# Altium integrated library SMART_WATCH_TOP.IntLib: 51 symbols
Pins are listed as number, name and electrical type; pins without a type are passive.

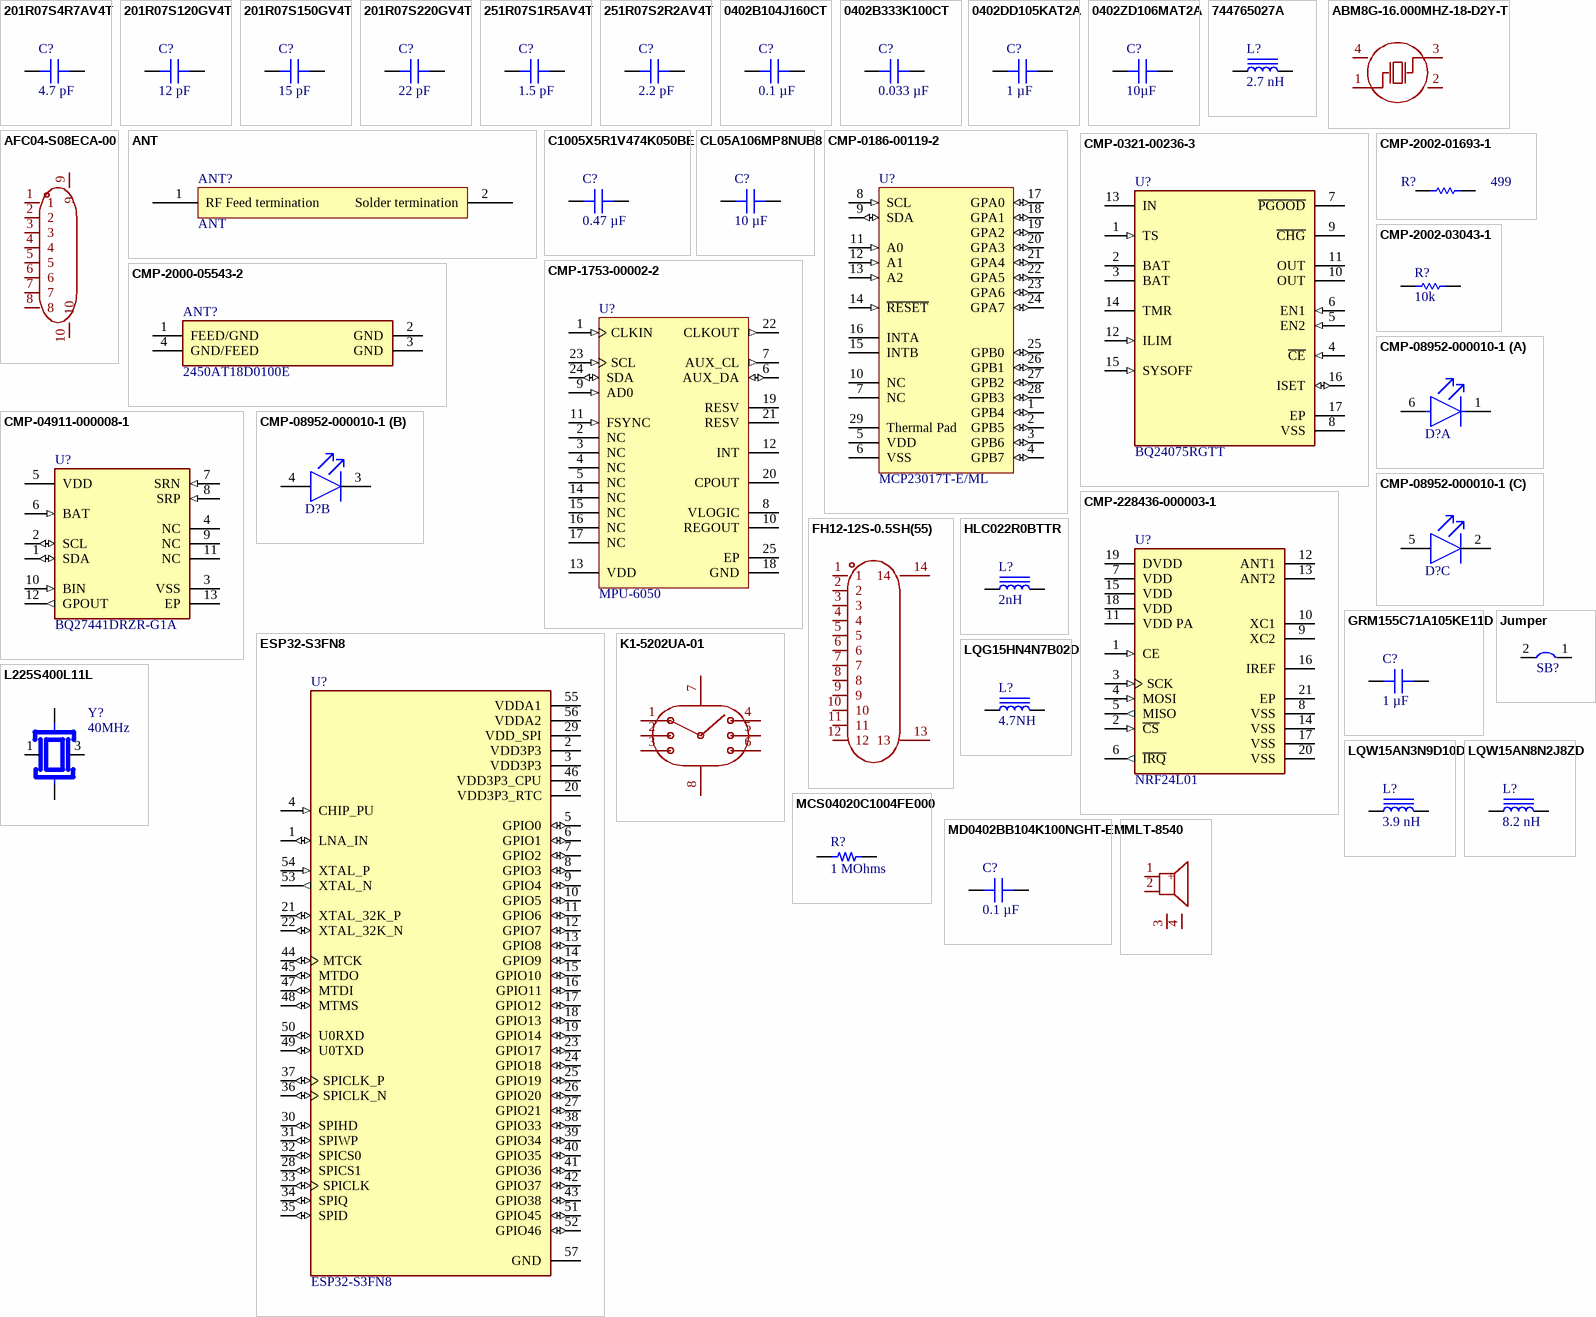
[diagram p0: symbols 201R07S4R7AV4T to MLT-8540]

## 201R07S4R7AV4T
designator C?, comment 4.7 pF
CAP CER 4.7PF 200V C0G/NP0 0402; Part Number: 201R07S4R7AV4T; MFR.Part #: 0402CG4R7C500NT; Manufacturer: FH (Guangdong Fenghua Advanced Tech); Temperature Coefficient: C0G, NP0; Tolerance: ±0.05pF; Applications: RF, Microwave, High Frequency; componentlink1description: Datasheet; componentlink1url: https://www.johansontechnology.com/downloads/catalog/johanson-technology-multi-layer-high-q-capacitors.pdf; componentlink2description: DigiKey Link; componentlink2url: https://www.digikey.com/en/products/detail/johanson-technology-inc/201R07S4R7AV4T/9658851; Device Package: 0402 (1005 Metric); Features: High Q, Low Loss, Ultra Low ESR; lastupdated: 2/9/2024 8:04:23 PM; Lifecycle Status: Active; Minimum Order: 1; Mounting Type: Surface Mount, MLCC; Operating Temperature: -55°C ~ 125°C; Package / Case: 0402 (1005 Metric); packaging: TapeAndReel; partid: 45674; Part Status: Active; price: 0.15; series: S; Size / Dimension: 0.040" L x 0.020" W (1.02mm x 0.51mm); Supplier 1: DigiKey; Supplier Part Number 1: 712-1682-1-ND; Thickness (Max): 0.024" (0.61mm); value: 4.7 pF; Voltage - Rated: 200V; JLCPCB Part #: C1569; Capacitance: 4.7 pF
footprint CAP 0402_1005
pins: 1, 2

## 201R07S120GV4T
designator C?  Capacitance: 12 pF
CAP CER 12PF 200V C0G/NP0 0402; Part Number: 0402CG120J500NT; Manufacturer: FH (Guangdong Fenghua Advanced Tech); Applications: RF, Microwave, High Frequency; Device Package: 0402 (1005 Metric); Mounting Type: Surface Mount, MLCC; Size / Dimension: 0.040" L x 0.020" W (1.02mm x 0.51mm); MFR.Part #: 0402CG120J500NT; JLCPCB Part #: C1547
footprint CAP 0402_1005
pins: 1, 2

## 201R07S150GV4T
designator C?  Capacitance: 15 pF
CAP CER 15PF 200V C0G/NP0 0402; Part Number: 0402CG150J500NT; Manufacturer: FH (Guangdong Fenghua Advanced Tech); Applications: RF, Microwave, High Frequency; Device Package: 0402 (1005 Metric); Mounting Type: Surface Mount, MLCC; Size / Dimension: 0.040" L x 0.020" W (1.02mm x 0.51mm); MFR.Part #: 0402CG150J500NT; JLCPCB Part #: C1548
footprint CAP 0402_1005
pins: 1, 2

## 201R07S220GV4T
designator C?, comment 22 pF
CAP CER 22PF 200V C0G/NP0 0402; Part Number: 201R07S220GV4T; MFR.Part #: 0402CG220J500NT; Manufacturer: FH (Guangdong Fenghua Advanced Tech); Temperature Coefficient: C0G, NP0; Tolerance: ±2%; Capacitance: 22 pF; Applications: RF, Microwave, High Frequency; componentlink1description: Datasheet; componentlink1url: https://www.johansontechnology.com/downloads/catalog/johanson-technology-multi-layer-high-q-capacitors.pdf; componentlink2description: DigiKey Link; componentlink2url: https://www.digikey.com/en/products/detail/johanson-technology-inc/201R07S220GV4T/9658867; Device Package: 0402 (1005 Metric); Features: High Q, Low Loss, Ultra Low ESR; lastupdated: 2/9/2024 8:04:18 PM; Lifecycle Status: Active; Minimum Order: 1; Mounting Type: Surface Mount, MLCC; Operating Temperature: -55°C ~ 125°C; Package / Case: 0402 (1005 Metric); packaging: TapeAndReel; partid: 45669; Part Status: Active; price: 0.06; series: S; Size / Dimension: 0.040" L x 0.020" W (1.02mm x 0.51mm); Supplier 1: DigiKey; Supplier Part Number 1: 712-1698-1-ND; Thickness (Max): 0.024" (0.61mm); value: 22 pF; Voltage - Rated: 200V; JLCPCB Part #: C1555
footprint CAP 0402_1005
pins: 1, 2

## 251R07S1R5AV4T
designator C?, comment 1.5 pF
CAP CER 1.5PF 250V C0G/NP0 0402; Part Number: 251R07S1R5AV4T; MFR.Part #: 0402CG1R5C500NT; Manufacturer: FH (Guangdong Fenghua Advanced Tech); Temperature Coefficient: C0G, NP0; Tolerance: ±0.05pF; Capacitance: 1.5 pF; Applications: RF, Microwave, High Frequency; componentlink1description: Datasheet; componentlink1url: https://www.johansontechnology.com/downloads/catalog/johanson-technology-multi-layer-high-q-capacitors.pdf; componentlink2description: DigiKey Link; componentlink2url: https://www.digikey.com/en/products/detail/johanson-technology-inc/251R07S1R5AV4T/9658837; Device Package: 0402 (1005 Metric); Features: High Q, Low Loss, Ultra Low ESR; lastupdated: 2/9/2024 8:04:21 PM; Lifecycle Status: Active; Minimum Order: 1; Mounting Type: Surface Mount, MLCC; Operating Temperature: -55°C ~ 125°C; Package / Case: 0402 (1005 Metric); packaging: TapeAndReel; partid: 12240; Part Status: Active; price: 0.05; series: S; Size / Dimension: 0.040" L x 0.020" W (1.02mm x 0.51mm); Supplier 1: DigiKey; Supplier Part Number 1: 712-1668-1-ND; Thickness (Max): 0.024" (0.61mm); value: 1.5 pF; Voltage - Rated: 250V; JLCPCB Part #: C1552
footprint CAP 0402_1005
pins: 1, 2

## 251R07S2R2AV4T
designator C?, comment 2.2 pF
CAP CER 2.2PF 250V C0G/NP0 0402; Part Number: 251R07S2R2AV4T; MFR.Part #: C1559; Manufacturer: FH (Guangdong Fenghua Advanced Tech); Temperature Coefficient: C0G, NP0; Tolerance: ±0.05pF; Capacitance: 2.2 pF; Applications: RF, Microwave, High Frequency; componentlink1description: Datasheet; componentlink1url: https://www.johansontechnology.com/downloads/catalog/johanson-technology-multi-layer-high-q-capacitors.pdf; componentlink2description: DigiKey Link; componentlink2url: https://www.digikey.com/en/products/detail/johanson-technology-inc/251R07S2R2AV4T/9658843; Device Package: 0402 (1005 Metric); Features: High Q, Low Loss, Ultra Low ESR; lastupdated: 2/9/2024 8:04:21 PM; Lifecycle Status: Active; Minimum Order: 1; Mounting Type: Surface Mount, MLCC; Operating Temperature: -55°C ~ 125°C; Package / Case: 0402 (1005 Metric); packaging: TapeAndReel; partid: 12355; Part Status: Active; price: 0.15; series: S; Size / Dimension: 0.040" L x 0.020" W (1.02mm x 0.51mm); Supplier 1: DigiKey; Supplier Part Number 1: 712-1674-1-ND; Thickness (Max): 0.024" (0.61mm); value: 2.2 pF; Voltage - Rated: 250V; JLCPCB Part #: 0402CG2R2C500NT
footprint CAP 0402_1005
pins: 1, 2

## 0402B104J160CT
designator C?  Capacitance: 0.1 µF
100nF 16V X7R ±10% 0402 Multilayer Ceramic Capacitors MLCC - SMD/SMT ROHS; Manufacturer: YAGEO; MFR.Part #: CC0402KRX7R7BB104; Device Package: 0402 (1005 Metric); Size / Dimension: 0.039" L x 0.020" W (1.00mm x 0.50mm); JLCPCB Part #: C60474
footprint CAP 0402_1005
pins: 1, 2

## 0402B333K100CT
designator C?, comment 0.033 µF
CAP CER 0.033UF 10V X7R 0402; Part Number: 0402B333K100CT; MFR.Part #: 0402B333K160NT; Manufacturer: FH (Guangdong Fenghua Advanced Tech); Tolerance: ±10%; Capacitance: 0.033 µF; Applications: General Purpose; componentlink1description: Datasheet; componentlink1url: http://www.passivecomponent.com/wp-content/uploads/2018/10/MLCC.pdf; componentlink2description: DigiKey Link; componentlink2url: https://www.digikey.com/en/products/detail/walsin-technology-corporation/0402B333K100CT/9354700; Device Package: 0402 (1005 Metric); lastupdated: 2/9/2024 8:04:38 PM; Lifecycle Status: Active; Minimum Order: 1; Mounting Type: Surface Mount, MLCC; Operating Temperature: -55°C ~ 125°C; Package / Case: 0402 (1005 Metric); packaging: CutTape; partid: 1884; Part Status: Active; price: 0.01; series: -; Size / Dimension: 0.039" L x 0.020" W (1.00mm x 0.50mm); Supplier 1: DigiKey; Supplier Part Number 1: 1292-1202-1-ND; Temperature Coefficient: X7R; Thickness (Max): 0.022" (0.55mm); value: 0.033 µF; Voltage - Rated: 10V; JLCPCB Part #: C60425
footprint CAP 0402_1005
pins: 1, 2

## 0402DD105KAT2A
designator C?  Capacitance: 1 µF
10V 1uF X5R ±10% 0402 Multilayer Ceramic Capacitors MLCC - SMD/SMT ROHS; Part Number: CL05A105KP5NNNC; Manufacturer: Samsung Electro-Mechanics; Device Package: 0402 (1005 Metric); Size / Dimension: 0.039" L x 0.020" W (1.00mm x 0.50mm); MFR.Part #: CL05A105KP5NNNC; JLCPCB Part #: C14445
footprint CAP 0402_1005
pins: 1, 2

## 0402ZD106MAT2A
designator C?, comment 10µF
CAP CER 10UF 10V X5R 0402; Part Number: 0402ZD106MAT2A; MFR.Part #: CL05A106MP8NUB8; Manufacturer: Samsung Electro-Mechanics; Tolerance: ±20%; Capacitance: 10µF; Applications: General Purpose; componentlink1description: Datasheet; componentlink1url: http://datasheets.avx.com/cx5r.pdf; componentlink2description: DigiKey Link; componentlink2url: http://digikey.com/product-detail/en/avx-corporation/0402ZD106MAT2A/478-10052-1-ND/6564275; Device Package: 0402 (1005 Metric); lastupdated: 2/8/2022 12:26:50 PM; Lifecycle Status: Active; Minimum Order: 1; Mounting Type: Surface Mount, MLCC; Operating Temperature: -55°C ~ 85°C; Package / Case: 0402 (1005 Metric); packaging: TapeAndReel; partid: 6854; Part Status: Active; price: 0.24; series: -; Size / Dimension: 0.039" L x 0.020" W (1.00mm x 0.50mm); Supplier 1: DigiKey; Supplier Part Number 1: 478-10052-1-ND; Temperature Coefficient: X5R; Thickness (Max): 0.028" (0.71mm); value: 10µF; Voltage - Rated: 10V; JLCPCB Part #: C307415
footprint CAP 0402_1005
pins: 1, 2

## 744765027A
designator L?, comment 2.7 nH
FIXED IND 2.7NH 640MA 120MOHM SM; Part Number: 744765027A; MFR.Part #: CS0402-2N7B-S; Manufacturer: Chilisin Elec; DC Resistance (DCR): 120mOhm Max; Frequency - Self Resonant: 6GHz; Inductance Frequency - Test: 250 MHz; Material - Core: Ceramic; Q @ Freq: 16 @ 250MHz; Shielding: Unshielded; Tolerance: ±0.2nH; Type: Drum Core, Wirewound; ComponentLink1Description: Datasheet; ComponentLink1URL: https://katalog.we-online.de/pbs/datasheet/744765027A.pdf; ComponentLink2Description: DigiKey Link; ComponentLink2URL: https://www.digikey.com/en/products/detail/würth-elektronik/744765027A/1994078; Current Rating (Amps): 640 mA; Device Package: 0402 (1005 Metric); Height - Seated (Max): 0.024" (0.60mm); Inductance: 2.7 nH; LastUpdated: 6/3/2024 8:03:31 PM; Lifecycle Status: Active; Minimum Order: 1; Mounting Type: Surface Mount; Operating Temperature: -40°C ~ 125°C; Package / Case: 0402 (1005 Metric); Packaging: TapeAndReel; PartId: 680; Part Status: Active; Price: 0.27; Ratings: AEC-Q200; Series: WE-KI; Size / Dimension: 0.039" L x 0.022" W (1.00mm x 0.55mm); Supplier 1: DigiKey; Supplier Part Number 1: 732-1708-1-ND; Supplier Device Package: 0402 (1005 Metric); Value: 2.7 nH; JLCPCB Part #: C142182
footprint IND 0402_1005 RF WW
pins: 1, 2

## ABM8G-16.000MHZ-18-D2Y-T
designator X?, comment 16MHz  (value not drawn)
Manufacturer: Abracon LLC; Symbol: ABM8G-16.000MHZ-18-D2Y-T; Add into BOM: yes; Normal temperature Frequency Tolerance: ±20ppm; Frequency Stability(Full temperature range): ±30ppm; Equivalent Series Resistance (ESR): 80Ω; Device: ABM8G-16.000MHZ-18-D2Y-T; LCSC Part Name: 16MHz ±20ppm 18pF; Supplier Part: C1985423; Manufacturer Part: ABM8G-16.000MHZ-18-D2Y-T; Supplier Footprint: SMD3225-4P; JLCPCB Part Class: Extended Part; Datasheet: https://atta.szlcsc.com/upload/public/pdf/source/20180906/C276421_0DB5B9EE345225C827799AFD2B19ACDB.pdf; Supplier: LCSC; Convert to PCB: yes; MFR.Part #: ABM8G-16.000MHZ-18-D2Y-T; JLCPCB Part #: C1985423
footprint CRYSTAL-SMD_4P-L3.2-W2.5-BL
3D model CRYSTAL-SMD_4P-L3.2-W2.5-BL
pins: 1 OSC1, 2, 3 OSC2, 4

## AFC04-S08ECA-00
designator FPC?  (value not drawn)
Manufacturer: JUSHUO; Add into BOM: yes; Locking Feature: 抽屉式; Number of Contacts: 8P; Pitch: 0.5mm; FFC, FCB Thickness: 0.3mm; Symbol: AFC04-S08ECA-00; Device: AFC04-S08ECA-00; LCSC Part Name: 间距:0.5mm P数:8P 抽屉式 上接; Supplier Part: C883637; Manufacturer Part: AFC04-S08ECA-00; Supplier Footprint: SMD,P=0.5mm,卧贴; JLCPCB Part Class: Extended Part; Datasheet: https://atta.szlcsc.com/upload/public/pdf/source/20201020/C883635_E94301B494140F0FE9C86E243B1AABF7.pdf; Supplier: LCSC; Convert to PCB: yes; Contact Type: Contact,Top; Mounting Type: 卧贴; Height Above Board: 1.2mm; Operating Temperature Range: -25℃~+85℃; JLCPCB Part #: C883637; MFR.Part #: AFC04-S08ECA-00
footprint FPC-SMD_AFC04-S08ECA-00
3D model FPC-SMD_AFC04-S08ECA-00
pins: 1, 2, 3, 4, 5, 6, 7, 8, 9, 10

## ANT
designator ANT?
MFR.Part #: 2450AT18D0100E; Manufacturer: Johanson Dielectrics; JLCPCB Part #: C2917718
footprint CAPC3216X13N (Chip Capacitor, 2-Leads, Body 3.20x1.60mm, IPC Medium Density)
pins: 1 RF Feed termination, 2 Solder termination

## C1005X5R1V474K050BE
designator C?, comment 0.47 µF
CAP CER 0.47UF 35V X5R 0402; Part Number: C1005X5R1V474K050BE; MFR.Part #: GRM155R61A474KE15D; Manufacturer: Murata Electronics; Tolerance: ±10%; Capacitance: 0.47 µF; Applications: Boardflex Sensitive; componentlink1description: Datasheet; componentlink1url: https://product.tdk.com/info/en/catalog/datasheets/mlcc_commercial_soft_en.pdf?ref_disty=digikey; componentlink2description: DigiKey Link; componentlink2url: https://www.digikey.com/en/products/detail/tdk-corporation/C1005X5R1V474K050BE/7907744; Device Package: 0402 (1005 Metric); Features: Soft Termination; lastupdated: 2/9/2024 8:04:38 PM; Lifecycle Status: Active; Minimum Order: 1; Mounting Type: Surface Mount, MLCC; Operating Temperature: -55°C ~ 85°C; Package / Case: 0402 (1005 Metric); packaging: TapeAndReel; partid: 1797; Part Status: Active; price: 0.01; series: C; Size / Dimension: 0.039" L x 0.020" W (1.00mm x 0.50mm); Supplier 1: DigiKey; Supplier Part Number 1: 445-175220-1-ND; Temperature Coefficient: X5R; Thickness (Max): 0.024" (0.60mm); value: 0.47 µF; Voltage - Rated: 35V; JLCPCB Part #: C77003
footprint CAP 0402_1005
pins: 1, 2

## CL05A106MP8NUB8
designator C?, comment 10 µF
CAP CER 10UF 10V X5R 0402; Part Number: CL05A106MP8NUB8; MFR.Part #: CL05A106MQ5NUNC; Manufacturer: Samsung Electro-Mechanics; Capacitance: 10 µF; JLCPCB Part #: C15525
footprint CAP 0402_1005
pins: 1, 2

## CMP-0186-00119-2
designator U?, comment MCP23017T-E/ML
16-Bit I/O Expander with Serial Interface, 28-Pin QFN, Extended Temperature, Tape and Reel; Manufacturer: Microchip; RevisionNote: URLs added.; PackageDescription: 28-Lead Plastic Quad Flat, No Lead Package (ML) - 6x6 mm Body [QFN] with 0.55 mm Contact Length; ComponentLink3Description: Package Specification; ComponentLink2URL: http://ww1.microchip.com/downloads/en/DeviceDoc/21952b.pdf; PackageVersion: revBB, Aug-2009; PackageReference: QFN-ML28; ComponentLink2Description: Datasheet; ComponentLink1URL: http://www.microchip.com/; DatasheetVersion: revB, Feb-2007; ComponentLink3URL: http://www.microchip.com/stellent/groups/techpub_sg/documents/packagingspec/en012702.pdf; Code_JEDEC: MO-220; ComponentLink1Description: Manufacturer URL; Manufacturer Part Number: MCP23017T-E/ML
footprint QFN-ML28_M (QFN, 28-Leads, Body 6x6mm, Pitch 0.65mm, Thermal Pad 4.2x4.2mm, IPC Low Density)
footprint QFN-ML28_N (QFN, 28-Leads, Body 6x6mm, Pitch 0.65mm, Thermal Pad 4.2x4.2mm, IPC Medium Density)
footprint QFN-ML28_L (QFN, 28-Leads, Body 6x6mm, Pitch 0.65mm, Thermal Pad 4.2x4.2mm, IPC High Density)
pins: 1 GPB4 (io), 2 GPB5 (io), 3 GPB6 (io), 4 GPB7 (io), 5 VDD (power), 6 VSS (power), 7 NC, 8 SCL (in), 9 SDA (io), 10 NC, 11 A0 (in), 12 A1 (in), 13 A2 (in), 14 ~{RESET} (in), 15 INTB (oc), 16 INTA (oc), 17 GPA0 (io), 18 GPA1 (io), 19 GPA2 (io), 20 GPA3 (io), 21 GPA4 (io), 22 GPA5 (io), 23 GPA6 (io), 24 GPA7 (io), 25 GPB0 (io), 26 GPB1 (io), 27 GPB2 (io), 28 GPB3 (io), 29 Thermal Pad

## CMP-0321-00236-3
designator U?, comment BQ24075RGTT
IC LI-ION CHARGE/PWR MGMT 16-QFN; Manufacturer: Texas Instruments; Min Input Voltage: 4.3V; Output Voltage: 4.2V; Max Input Voltage: 26V; Min Supply Voltage: 4.35V; Max Supply Voltage: 6.4V; Min Output Voltage: 5.4V; Output Current: 1.5A; Number of Cells: 1; Max Output Current: 4.5A; Max Output Voltage: 5.6V; Battery Type: LITHIUM-ION; Package Quantity: 1; Length: 3.15mm; Weight: 0.000808oz; Termination: SMD/SMT; Height: 0.95mm; Series: -; Lead Free: Lead Free; Radiation Hardening: No; REACH SVHC: No SVHC; Case/Package: QFN; Number of Pins: 16; Width: 3.15mm; Max Operating Temperature: 85°C; Contact Plating: Gold; Max Charge Current: 1.5A; Packaging: Tape and Reel; Min Operating Temperature: -40°C; MFR.Part #: BQ24075RGTT; JLCPCB Part #: C2865459; Manufacturer Part Number: BQ24075RGTT
footprint FP-RGT0016C-IPC_C
footprint FP-RGT0016C-IPC_B
footprint FP-RGT0016C-IPC_A
footprint FP-RGT0016C-MFG
pins: 1 TS (in), 2 BAT (power), 3 BAT (power), 4 ~{CE} (in), 5 EN2 (in), 6 EN1 (in), 7 ~{PGOOD} (hiz), 8 VSS (power), 9 ~{CHG} (hiz), 10 OUT (power), 11 OUT (power), 12 ILIM (in), 13 IN (power), 14 TMR, 15 SYSOFF (in), 16 ISET (io), 17 EP (power)

## CMP-1753-00002-2
designator U?, comment MPU-6050
3-Axis Gyroscope, Accelerometer and a Digital Motion Processor(TM) (DMP), 2.375 to 3.46 V, -40 to 85 degC, 24-Pin QFN, RoHS, Tape and Reel; Manufacturer: TDK InvenSense; Manufacturer: InvenSense; Featured Product: MPU-60506-Axis,IntegratedI²CSolution; Other Names: 1428-1007-2 / MPU6050; Sensor Type: MotionTracking; Online Catalog: MPU-6000™Series; Unit PriceUSD: Digital; Datasheet Version: Rev. 3.3, 05/2012; Category: Sensors,Transducers; Datasheet URL: http://datasheet.octopart.com/MPU-6050-InvenSense-datasheet-14421344.pdf; Family: Multifunction; Standard Package: 5,000; Manufacturer URL: http://www.invensense.com/; Output Type: Digital; Dynamic Catalog: MPU-6000™Series; MFR.Part #: MPU-6050; JLCPCB Part #: C24112; Manufacturer Part Number: MPU-6050
footprint IS-QFN-24_V (QFN, 24-Leads, Body 4x4mm, Pitch 0.5mm, Thermal Pad 2.7x2.6mm)
pins: 1 CLKIN (in) "Optional external reference clock input. Connect to GND if unused.", 2 NC "Not internally connected. May be used for PCB trace routing", 3 NC "Not internally connected. May be used for PCB trace routing", 4 NC "Not internally connected. May be used for PCB trace routing", 5 NC "Not internally connected. May be used for PCB trace routing", 6 AUX_DA (io) "I2C master serial data, for connecting to external sensors", 7 AUX_CL (out) "I2C Master serial clock, for connecting to external sensors", 8 VLOGIC (power) "Digital I/O supply voltage", 9 AD0 (in) "I2C Slave Address LSB (AD0)", 10 REGOUT "Regulator filter capacitor connection", 11 FSYNC (in) "Frame synchronization digital input. Connect to GND if unused.", 12 INT (oc) "Interrupt digital output (totem pole or open-drain)", 13 VDD (power) "Power supply voltage and Digital I/O supply voltage", 14 NC "Not internally connected. May be used for PCB trace routing", 15 NC "Not internally connected. May be used for PCB trace routing", 16 NC "Not internally connected. May be used for PCB trace routing", 17 NC "Not internally connected. May be used for PCB trace routing", 18 GND (power) "Power supply ground", 19 RESV "Reserved. Do not connect", 20 CPOUT "Charge pump capacitor connection", 21 RESV "Reserved. Do not connect", 22 CLKOUT (out) "System clock output", 23 SCL (in) "System clock output  I2C serial clock (SCL)", 24 SDA (io) "I2C serial data (SDA)", 25 EP (power) "Exposed Pad"

## CMP-2000-05543-2
designator ANT?, comment 2450AT18D0100E
RF ANT 2.4GHZ CHIP SOLDER SMD; Manufacturer: Johanson Dielectrics; Manufacturer: Johanson; Gain: -1dB; Bandwidth: 100MHz; Frequency: 2.45GHz; Power Rating: 2W; Impedance: 50R; Number of Bands: 1; Return Loss: -10dB; Case/Package: SMD/SMT; Width: 1.6mm; RoHS Compliant: Yes; Package Quantity: 3000; Height: 0.047inch; Series: -; Max Power Dissipation: 2W; Mount: Surface Mount; Termination: Solder; Radiation Hardening: No; Packaging: Tape and Reel; Length: 3.2mm; JLCPCB Part #: C2917718; MFR.Part #: 2450AT18D0100E; Manufacturer Part Number: 2450AT18D0100E
footprint FP-2450AT18D0100E-MFG
pins: 1 FEED/GND (power), 2 GND (power), 3 GND (power), 4 GND/FEED (power)

## CMP-2002-01693-1
designator R?, comment resistance: 499  (hidden comment: TNPW0402499RBEED)
Part Number: RC0402FR-07499RL; Manufacturer: YAGEO; Manufacturer: Vishay; JLCPCB Part #: C137970; MFR.Part #: RC0402FR-07499RL; Manufacturer Part Number: TNPW0402499RBEED
footprint RESC1005X40X20NL05T10 (Chip Resistor, 2-Leads, Body 1.00x0.50mm, IPC Medium Density)
footprint RESC1005X40X20LL05T10 (Chip Resistor, 2-Leads, Body 1.00x0.50mm, IPC High Density)
footprint RESC1005X40X20ML05T10 (Chip Resistor, 2-Leads, Body 1.00x0.50mm, IPC Low Density)
pins: 1, 2
1 alternate drawing of the same symbol

## CMP-2002-03043-1
designator R?, comment resistance: 10k  (hidden comment: 0402WGF1002TCE)
Manufacturer: UNI-ROYAL(Uniroyal Elec); Manufacturer: Vishay; Manufacturer Part Number: CRCW040210K0FKEDHP; Part Number: 0402WGF1002TCE; JLCPCB Part #: C25744; MFR.Part #: 0402WGF1002TCE
footprint RESC1005X40X25ML05T10 (Chip Resistor, 2-Leads, Body 1.00x0.50mm, IPC Low Density)
footprint RESC1005X40X25LL05T10 (Chip Resistor, 2-Leads, Body 1.00x0.50mm, IPC High Density)
footprint RESC1005X40X25NL05T10 (Chip Resistor, 2-Leads, Body 1.00x0.50mm, IPC Medium Density)
pins: 1, 2
1 alternate drawing of the same symbol

## CMP-04911-000008-1
designator U?, comment BQ27441DRZR-G1A
IC BATT FUEL GAUGE LI-ION 12SON; Manufacturer: Texas Instruments; Number Of Cells: 1; Nominal Supply Current: 93uA; Max Supply Voltage: 4.5V; Standoff Height: 0mm; Min Supply Voltage: 2.45V; Output Voltage: 1.8V; Temperature Range High: +85°C; Temperature: -40°C to +85°C; Device Class L2: Power Management ICs; Device Class L1: Integrated Circuits (ICs); Lead Free: Yes; Height: 1mm; Package: DRZ0012A; Number Of Outputs: 1; ComponentLink2URL: http://www.ti.com/lit/gpn/bq27441-g1; Ambient Temperature Range High: +85°C; Category: IC; Manufacturer Part Number: BQ27441DRZR-G1A; Device Class L3: Battery Management; RoHS: TRUE; Octopart: https://octopart.com/bq27441drzr-g1a-texas+instruments-30555829; Ambient Temperature Range Low: -40°C; Automotive: No; Mouser Description: System-Side Impedance Track? Battery Fuel (Gas) Gauge 12-SON -40 to 85; Digikey Description: IC BATT FUEL GAUGE LI-ION 12SON; Temperature Range Low: -40°C; ComponentLink2Description: Datasheet; MFR.Part #: BQ27441DRZR-G1A; JLCPCB Part #: C473397
footprint FP-DRZ0012A-MFG
pins: 1 SDA (io), 2 SCL (io), 3 VSS (power), 4 NC, 5 VDD (power), 6 BAT (in), 7 SRN (in), 8 SRP (in), 9 NC, 10 BIN (in), 11 NC, 12 GPOUT (out), 13 EP (power)

## CMP-08952-000010-1
designator D?, comment MSL0402RGBU1  (value not drawn)
LED RGB DIFFUSED 1816 SMD; Manufacturer: ROHM; Wavelength: 470/527/624nm; Luminous Intensity: 180/550/400mcd; Forward Voltage: 3.3/3.5/2.1V; Power Dissipation: 180mW; Colour: Blue, Green, Red; Reverse Voltage: 5V; Forward Current: 20mA; Led Orientation: Top View; Lead Free: Yes; Manufacturer Part Number: MSL0402RGBU1; Octopart: https://octopart.com/msl0402rgbu1-rohm-74168054; Device Class L2: LEDs; Digikey Description: LED RGB DIFFUSED 1816 SMD; Package: MSL0402; Temperature Range High: +85°C; RoHS: TRUE; Temperature: -40°C to +85°C; Category: Diode; Height: 0.6mm; Temperature Range Low: -40°C; Device Class L1: Optoelectronics; ComponentLink2Description: Datasheet; Automotive: No; ComponentLink2URL: https://d1d2qsbl8m0m72.cloudfront.net/en/products/databook/datasheet/opto/led/chip_multi/msl0402rgb-e.pdf; Device Class L3: unset; MFR.Part #: MSL0402RGBU1; JLCPCB Part #: C2898980
footprint FP-MSL0402-MFG
part A pins: 1 BLUE C, 6 BLUE A
part B pins: 3 RED C, 4 RED A
part C pins: 2 GREEN C, 5 GREEN A

## CMP-228436-000003-1
designator U?, comment NRF24L01
IC RF TXRX ISM>1GHZ 20VFQFN; MFR.Part #: NRF24L01P-R; Manufacturer: Nordic Semicon; Manufacturer: Elfa Nordic Power; JLCPCB Part #: C8791; Manufacturer Part Number: NRF24L01
footprint FP-NRF24L01-IPC_C
footprint FP-NRF24L01-IPC_B
footprint FP-NRF24L01-IPC_A
pins: 1 CE (in), 2 ~{CS} (in), 3 SCK (in), 4 MOSI (in), 5 MISO (out), 6 ~{IRQ} (out), 7 VDD (power), 8 VSS (power), 9 XC2, 10 XC1, 11 VDD PA (power), 12 ANT1, 13 ANT2, 14 VSS (power), 15 VDD (power), 16 IREF, 17 VSS (power), 18 VDD (power), 19 DVDD (power), 20 VSS (power), 21 EP (power)

## ESP32-S3FN8
designator U?
Espressif Systems [ENGINEERING SAMPLES]SMD IC , Dual-Core MCU, Wi-Fi 2.4G & BLE 5.0 combo, 8 MB Octal SPI PSRAM, QFN 56-pin, 7*7 mm; SnapEDA_Link: https://www.snapeda.com/parts/ESP32-S3FN8/Espressif+Systems/view-part/?ref=snap; Package: None; Value: *; MF: Espressif Systems; MP: ESP32-S3FN8; Check_prices: https://www.snapeda.com/parts/ESP32-S3FN8/Espressif+Systems/view-part/?ref=eda
footprint QFN40P700X700X90-57N
pins: 1 LNA_IN (io), 2 VDD3P3 (power), 3 VDD3P3 (power), 4 CHIP_PU (in), 5 GPIO0 (io), 6 GPIO1 (io), 7 GPIO2 (io), 8 GPIO3 (io), 9 GPIO4 (io), 10 GPIO5 (io), 11 GPIO6 (io), 12 GPIO7 (io), 13 GPIO8 (io), 14 GPIO9 (io), 15 GPIO10 (io), 16 GPIO11 (io), 17 GPIO12 (io), 18 GPIO13 (io), 19 GPIO14 (io), 20 VDD3P3_RTC (power), 21 XTAL_32K_P (io), 22 XTAL_32K_N (io), 23 GPIO17 (io), 24 GPIO18 (io), 25 GPIO19 (io), 26 GPIO20 (io), 27 GPIO21 (io), 28 SPICS1 (io), 29 VDD_SPI (power), 30 SPIHD (io), 31 SPIWP (io), 32 SPICS0 (io), 33 SPICLK (io), 34 SPIQ (io), 35 SPID (io), 36 SPICLK_N (io), 37 SPICLK_P (io), 38 GPIO33 (io), 39 GPIO34 (io), 40 GPIO35 (io), 41 GPIO36 (io), 42 GPIO37 (io), 43 GPIO38 (io), 44 MTCK (io), 45 MTDO (io), 46 VDD3P3_CPU (power), 47 MTDI (io), 48 MTMS (io), 49 U0TXD (io), 50 U0RXD (io), 51 GPIO45 (io), 52 GPIO46 (io), 53 XTAL_N (out), 54 XTAL_P (in), 55 VDDA1 (power), 56 VDDA2 (power), 57 GND (power)

## FH12-12S-0.5SH(55)
designator FPC?  (value not drawn)
Manufacturer: HRS(Hirose); Add into BOM: yes; Locking Feature: Hinged Lid; Number of Contacts: 12P; Pitch: 0.5mm; FFC, FCB Thickness: 0.3mm; Symbol: FH12-12S-0.5SH(55); Device: FH12-12S-0.5SH(55); LCSC Part Name: 间距:0.5mm P数:12P 翻盖式 下接; Supplier Part: C88360; Manufacturer Part: FH12-12S-0.5SH(55); Supplier Footprint: SMD,P=0.5mm,卧贴; JLCPCB Part Class: Extended Part; Datasheet: https://item.szlcsc.com/datasheet/FH12-12S-0.5SH(55)/89539.html; Supplier: LCSC; Convert to PCB: yes; Contact Type: Bottom Contact; Mounting Type: Surface Mount, Right Angle; Height Above Board: 2mm; Contact Material: Phosphor Bronze; Contact Plating: Gold; Operating Temperature: -40℃~+85℃; MFR.Part #: FH12-12S-0.5SH(55); JLCPCB Part #: C88360
footprint FPC-SMD_FH12-12S-0.5SH-55
3D model FPC-SMD_FH12-12S-0.5SH-55
pins: 1, 2, 3, 4, 5, 6, 7, 8, 9, 10, 11, 12, 13, 14

## GRM155C71A105KE11D
designator C?, comment 1 µF
CAP CER 1UF 10V X7S 0402; Part Number: GRM155C71A105KE11D; MFR.Part #: GRM155R60J105KE19D; Manufacturer: Murata Electronics; Tolerance: ±10%; Capacitance: 1 µF; Applications: General Purpose; componentlink1description: Datasheet; componentlink1url: https://search.murata.co.jp/Ceramy/image/img/A01X/G101/ENG/GRM155C71A105KE11-01.pdf; componentlink2description: DigiKey Link; componentlink2url: https://www.digikey.com/en/products/detail/murata-electronics/GRM155C71A105KE11D/6606086; Device Package: 0402 (1005 Metric); lastupdated: 8/27/2024 12:42:54 PM; Lifecycle Status: Active; Minimum Order: 1; Mounting Type: Surface Mount, MLCC; Operating Temperature: -55°C ~ 125°C; Package / Case: 0402 (1005 Metric); packaging: TapeAndReel; partid: 1749; Part Status: Active; price: 0.01; series: GRM; Size / Dimension: 0.039" L x 0.020" W (1.00mm x 0.50mm); Supplier 1: DigiKey; Supplier Part Number 1: 490-14457-1-ND; Temperature Coefficient: X7S; Thickness (Max): 0.024" (0.60mm); value: 1 µF; Voltage - Rated: 10V; JLCPCB Part #: C15684
footprint MURATA GRM155 0402_1005
pins: 1, 2

## HLC022R0BTTR
designator L?, comment 2nH
FIXED IND 2NH 596MA 180 MOHM SMD; Part Number: HLC022R0BTTR; Manufacturer: AVX Corporation; MFR.Part #: W25Q64JWUUIQ; DC Resistance (DCR): 180mOhm Max; Frequency - Self Resonant: 17GHz; Inductance Frequency - Test: 450MHz; Material - Core: Non-Magnetic; Q @ Freq: 26 @ 450MHz; Shielding: Unshielded; Tolerance: ±0.1nH; Type: Multilayer; ComponentLink1Description: Datasheet; ComponentLink1URL: //media.digikey.com/pdf/Data%20Sheets/AVX%20PDFs/MLO%20High%20Current%20Inductors.pdf; ComponentLink2Description: DigiKey Link; ComponentLink2URL: http://digikey.com/product-detail/en/avx-corporation/HLC022R0BTTR/478-7195-1-ND/3528423; Current Rating (Amps): 596mA; Device Package: 0402 (1005 Metric); Height - Seated (Max): 0.018" (0.45mm); Inductance: 2nH; LastUpdated: 9/2/2020 1:24:25 AM; Lifecycle Status: Active; Minimum Order: 1; Mounting Type: Surface Mount; Operating Temperature: -55°C ~ 125°C; Package / Case: 0402 (1005 Metric); Packaging: TapeAndReel; PartId: 1747; Part Status: Active; Price: 0.14; Series: MLO™; Size / Dimension: 0.039" L x 0.023" W (1.00mm x 0.58mm); Supplier 1: DigiKey; Supplier Part Number 1: 478-7195-1-ND; Supplier Device Package: 0402 (1005 Metric); Value: 2nH; JLCPCB Part #: C6604692
footprint IND 0402_1005
pins: 1, 2

## Jumper
designator SB?  (value not drawn)
footprint Jumper
pins: 1, 2

## K1-5202UA-01
designator SW?  (value not drawn)
Manufacturer: Korean Hroparts Elec; Add into BOM: yes; Symbol: K1-5202UA-01; Device: K1-5202UA-01; LCSC Part Name: K1-5202UA-01; Supplier Part: C136710; Manufacturer Part: K1-5202UA-01; Supplier Footprint: SMD,7.5x7.5mm; JLCPCB Part Class: Extended Part; Datasheet: https://atta.szlcsc.com/upload/public/pdf/source/20210810/88783A564DD08671777AA13C042542B2.pdf; Supplier: LCSC; Convert to PCB: yes; MFR.Part #: K1-5202UA-01; JLCPCB Part #: C136710
footprint SW-SMD_K1-5202UA-01
3D model SW-SMD_K1-5202UA-01
pins: 1 A, 2 B, 3 C, 4 CENTER, 5 D, 6 COMMON, 7 COMMON, 8 COMMON

## L225S400L11L
designator Y?  value 40MHz  (hidden comment: L225S400L11L)
-40℃~+85℃ 12pF 40MHz Crystal Oscillator ±10ppm SMD2520-4P Crystals ROHS; Manufacturer: Lucki; Package: SMD2520-4P; JLCPCB Part #: C5261125; MFR.Part #: L225S400L11L
footprint C5261125
pins: 1 IN/OUT, 2 GND (power), 2 GND (power), 3 OUT/IN, 4 GND (power)

## LQG15HN4N7B02D
designator L?, comment 4.7NH
200mΩ 300mA 4.7nH 4GHz 8@100MHz 0402 Inductors (SMD) ROHS; Manufacturer: Sunlord; MFR.Part #: SDCL1005C4N7STDF; value: 4.7NH; JLCPCB Part #: C13595; package: 0402
footprint Murata LQG15 0402
pins: 1, 2

## LQW15AN3N9D10D
designator L?, comment 3.9 nH
FIXED IND 3.9NH 900MA 0.04OHM SM; Part Number: LQW15AN3N9D10D; MFR.Part #: LQG15HS3N9S02D; Manufacturer: Murata Electronics; DC Resistance (DCR): 40mOhm Max; Frequency - Self Resonant: 7GHz; Inductance Frequency - Test: 100 MHz; Material - Core: Non-Magnetic; Q @ Freq: 30 @ 250MHz; Shielding: Unshielded; Tolerance: ±0.5nH; Type: Drum Core, Wirewound; ComponentLink1Description: Datasheet; ComponentLink1URL: https://search.murata.co.jp/Ceramy/image/img/P02/JELF243A-0051.pdf; ComponentLink2Description: DigiKey Link; ComponentLink2URL: https://www.digikey.com/en/products/detail/murata-electronics/LQW15AN3N9D10D/2594912; Current Rating (Amps): 900 mA; Device Package: 0402 (1005 Metric); Height - Seated (Max): 0.024" (0.60mm); Inductance: 3.9 nH; LastUpdated: 7/19/2024 11:52:53 PM; Lifecycle Status: Active; Minimum Order: 1; Mounting Type: Surface Mount; Operating Temperature: -55°C ~ 125°C; Package / Case: 0402 (1005 Metric); Packaging: TapeAndReel; PartId: 171; Part Status: Active; Price: 0.05; Series: LQW15; Size / Dimension: 0.039" L x 0.024" W (1.00mm x 0.60mm); Supplier 1: DigiKey; Supplier Part Number 1: 490-6815-1-ND; Value: 3.9 nH; JLCPCB Part #: C77109
footprint Murata LQW15 0402
pins: 1, 2

## LQW15AN8N2J8ZD
designator L?, comment 8.2 nH
FIXED IND 8.2NH 1.5A 0.069OHM SM; Part Number: LQW15AN8N2J8ZD; MFR.Part #: LQW15AN8N2G80D; Manufacturer: Murata Electronics; DC Resistance (DCR): 69mOhm Max; Frequency - Self Resonant: 6.5GHz; Inductance Frequency - Test: 100 MHz; Material - Core: Non-Magnetic; Q @ Freq: 32 @ 250MHz; Shielding: Unshielded; Tolerance: ±5%; Type: Drum Core, Wirewound; ComponentLink1Description: Datasheet; ComponentLink1URL: https://search.murata.co.jp/Ceramy/image/img/P02/JELF243A-9138.pdf; ComponentLink2Description: DigiKey Link; ComponentLink2URL: https://www.digikey.com/en/products/detail/murata-electronics/LQW15AN8N2J8ZD/6799017; Current Rating (Amps): 1.5 A; Device Package: 0402 (1005 Metric); Height - Seated (Max): 0.024" (0.60mm); Inductance: 8.2 nH; LastUpdated: 7/19/2024 11:52:53 PM; Lifecycle Status: Active; Minimum Order: 1; Mounting Type: Surface Mount; Operating Temperature: -55°C ~ 125°C; Package / Case: 0402 (1005 Metric); Packaging: TapeAndReel; PartId: 154; Part Status: Active; Price: 0.06; Ratings: AEC-Q200; Series: LQW15; Size / Dimension: 0.039" L x 0.024" W (1.00mm x 0.60mm); Supplier 1: DigiKey; Supplier Part Number 1: 490-15592-1-ND; Value: 8.2 nH; JLCPCB Part #: C307610
footprint Murata LQW15 0402
pins: 1, 2

## MCS04020C1004FE000
designator R?, comment 1 MOhms
RES SMD 1M OHM 1% 1/10W 0402; Part Number: MCS04020C1004FE000; Manufacturer: UNI-ROYAL(Uniroyal Elec); MFR.Part #: 0402WGF1004TCE; Power (Watts): 0.1W, 1/10W; Temperature Coefficient: ±50ppm/°C; Value: 1 MOhms; ComponentLink1Description: Datasheet; ComponentLink1URL: http://www.vishay.com/docs/28705/mcx0x0xpro.pdf; ComponentLink2Description: DigiKey Link; ComponentLink2URL: http://digikey.com/product-detail/en/vishay-beyschlag/MCS04020C1004FE000/MCS0402-1.00M-CFCT-ND/2607931; Composition: Thin Film; Device Package: 0402 (1005 Metric); Features: Anti-Sulfur; Height - Seated (Max): 0.015" (0.37mm); LastUpdated: 2/9/2024 8:30:21 PM; Lifecycle Status: Active; Minimum Order: 1; Number of Terminations: 2; Operating Temperature: -55°C ~ 155°C; Package / Case: 0402 (1005 Metric); Packaging: TapeAndReel; PartId: 3158; Part Status: Active; Price: 0.03; Resistance: 1 MOhms; Series: MCS - Professional; Size / Dimension: 0.039" L x 0.020" W (1.00mm x 0.50mm); Supplier 1: DigiKey; Supplier Part Number 1: MCS0402-1.00M-CFCT-ND; Supplier Device Package: 0402; Tolerance: ±1%; JLCPCB Part #: C26083
footprint RES 0402_1005
pins: 1, 2

## MD0402BB104K100NGHT-EM
designator C?, comment 0.1 µF
CAP CER 0.1UF 10V X7R 0402; Part Number: MD0402BB104K100NGHT-EM; MFR.Part #: GRM155R71A104KA01D; Manufacturer: Murata Electronics; Tolerance: ±10%; Capacitance: 0.1 µF; Applications: Medical, Non-Critical; componentlink1description: Datasheet; componentlink1url: https://mm.digikey.com/Volume0/opasdata/d220001/medias/docus/5546/MD Series R3.pdf; componentlink2description: DigiKey Link; componentlink2url: https://www.digikey.com/en/products/detail/knowles-novacap/MD0402BB104K100NGHT-EM/21406861; Device Package: 0402 (1005 Metric); lastupdated: 2/9/2024 8:03:17 PM; Lifecycle Status: Active; Minimum Order: 1; Mounting Type: Surface Mount, MLCC; Operating Temperature: -55°C ~ 125°C; Package / Case: 0402 (1005 Metric); packaging: TapeAndReel; partid: 56675; price: 1.21; series: MD; Supplier 1: DigiKey; Supplier Part Number 1: 1763-MD0402BB104K100NGHT-EMCT-ND; Temperature Coefficient: X7R; value: 0.1 µF; Voltage - Rated: 10V; JLCPCB Part #: C71687
footprint CAP 0402_1005
pins: 1, 2

## MLT-8540
designator BUZZER?, comment 2.7kHz  (value not drawn)
Manufacturer: Jiangsu Huaneng Elec; Add into BOM: yes; Driver Circuitry: Passive (external drive); Voltage - Supply: 2.5V~4.5V; Sound Pressure Level(SPL): 80dB; Symbol: MLT-8540; Device: MLT-8540; LCSC Part Name: MLT-8540; Supplier Part: C95300; Manufacturer Part: MLT-8540; Supplier Footprint: SMD,8.7x8.7mm; JLCPCB Part Class: Extended Part; Datasheet: https://atta.szlcsc.com/upload/public/pdf/source/20170522/1495448323732.pdf; Supplier: LCSC; Convert to PCB: yes; Technology: Electromagnetic Type; Value: 2.7kHz; Current Consumption: -; Diameter(φD): -; Length: 8.7mm; Width: 8.7mm; Height: 4mm; Operating Temperature: -; MFR.Part #: MLT-8540; JLCPCB Part #: C95300
footprint BUZ-SMD_4P-L8.5-W8.5-P8.50-TL
3D model BUZ-SMD_4P-L8.5-W8.5-P8.50-TL
pins: 1 +, 2, 3 NC, 4 NC

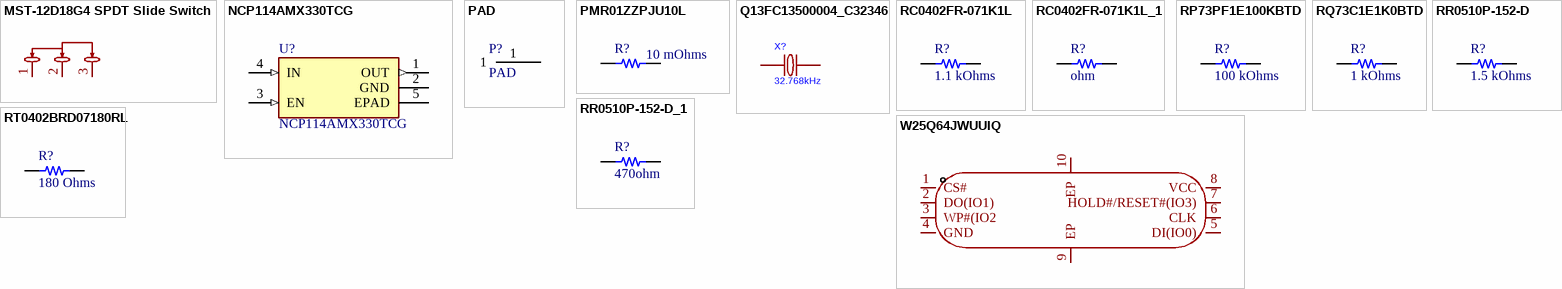
[diagram p1: symbols MST-12D18G4 SPDT Slide Switch to W25Q64JWUUIQ]

## MST-12D18G4 SPDT Slide Switch
designator SW?  (value not drawn)
MFR.Part #: C49023767; Manufacturer: SHOU HAN; Add into BOM: yes; Symbol: MST-12D18G4 SPDT SLIDE SWITCH; Device: MST-12D18G4 SPDT Slide Switch; LCSC Part Name: 卧贴两档 滑动开关; Supplier Part: C49023767; Manufacturer Part: MST-12D18G4 SPDT Slide Switch; Supplier Footprint: SMD; JLCPCB Part Class: Extended Part; Datasheet: https://item.szlcsc.com/datasheet/MST-12D18G4%2520SPDT%2520Slide%2520Switch/51384142.html; Supplier: LCSC; Convert to PCB: yes; JLCPCB Part #: MST-12D18G4 SPDT Slide Switch
footprint SW-SMD_MST-12D18G4-SPDT-SLIDE-SWITCH
3D model SW-SMD_MST-12D18G4-SPDT-SLIDE-SWITCH
pins: 1, 2, 3

## NCP114AMX330TCG
designator U?
Linear Voltage Regulator IC Positive Fixed 1 Output 300mA 4-UDFN (1.0x1.0); Manufacturer: onsemi; MF: ON Semiconductor; SnapEDA_Link: https://www.snapeda.com/parts/NCP114AMX330TCG/Onsemi/view-part/?ref=snap; Package: UDFN-4 ON Semiconductor; Value: *; MP: NCP114AMX330TCG; Check_prices: https://www.snapeda.com/parts/NCP114AMX330TCG/Onsemi/view-part/?ref=eda; JLCPCB Part #: C133056; MFR.Part #: NCP114AMX330TCG
footprint REG_NCP114AMX330TCG
pins: 1 OUT (out), 2 GND (power), 3 EN (in), 4 IN (in), 5 EPAD

## PAD
designator P?
footprint PCBComponent_1
pins: 1

## PMR01ZZPJU10L
designator R?, comment 10 mOhms
RES 0.01 OHM 5% 1/5W 0402; Part Number: PMR01ZZPJU10L; MFR.Part #: PE0402FRF070R01L; Manufacturer: YAGEO; Power (Watts): 0.2W, 1/5W; Temperature Coefficient: 0/ +200ppm/°C; Value: 10 mOhms; ComponentLink1Description: Datasheet; ComponentLink1URL: https://www.rohm.com/datasheet/PMR18EZPFV/pmr-e; ComponentLink2Description: DigiKey Link; ComponentLink2URL: https://www.digikey.com/en/products/detail/rohm-semiconductor/PMR01ZZPJU10L/5218668; Composition: Metal Element; Device Package: 0402 (1005 Metric); Features: Automotive AEC-Q200, Current Sense; Height - Seated (Max): 0.014" (0.35mm); LastUpdated: 2/9/2024 8:30:21 PM; Lifecycle Status: Active; Minimum Order: 1; Number of Terminations: 2; Operating Temperature: -55°C ~ 155°C; Package / Case: 0402 (1005 Metric); Packaging: TapeAndReel; PartId: 3064; Part Status: Active; Price: 0.28; Ratings: AEC-Q200; Resistance: 10 mOhms; Series: PMR; Size / Dimension: 0.039" L x 0.020" W (1.00mm x 0.50mm); Supplier 1: DigiKey; Supplier Part Number 1: RHM1693-1-ND; Supplier Device Package: 0402; Tolerance: ±5%; JLCPCB Part #: C2089431
footprint RES 0402_1005
pins: 1, 2

## Q13FC13500004_C32346
designator X?, comment 32.768kHz
Manufacturer: Seiko Epson; MFR.Part #: Q13FC13500004; Value: 32.768kHz; JLCPCB Part #: C32346
footprint FC-135R_L3.2-W1.5
3D model FC-135R_L3.2-W1.5
pins: 1, 2

## RC0402FR-071K1L
designator R?, comment 1.1 kOhms
RES 1.1K OHM 1% 1/16W 0402; Part Number: RC0402FR-071K1L; MFR.Part #: 0402WGF1101TCE; Manufacturer: UNI-ROYAL(Uniroyal Elec); Value: 1.1 kOhms; JLCPCB Part #: C25860
footprint YAGEO RES 0402_1005
pins: 1, 2

## RC0402FR-071K1L_1
designator R?, comment ohm
RES 1.1K OHM 1% 1/16W 0402; Part Number: RC0402FR-071K1L; MFR.Part #: 0402WGF0000TCE; Manufacturer: UNI-ROYAL(Uniroyal Elec); Value: ohm; JLCPCB Part #: C17168
footprint YAGEO RES 0402_1005
pins: 1, 2

## RP73PF1E100KBTD
designator R?, comment 100 kOhms
RES 100K OHM 0.1% 1/10W 0402; Part Number: RP73PF1E100KBTD; MFR.Part #: 0402WGF1003TCE; Manufacturer: UNI-ROYAL(Uniroyal Elec); Value: 100 kOhms; JLCPCB Part #: 0402
footprint RES 0402_1005
pins: 1, 2

## RQ73C1E1K0BTD
designator R?, comment 1 kOhms
RES 1 KOHMS 0.1% 1/16W 0402; Part Number: RQ73C1E1K0BTD; MFR.Part #: 0402WGF1001TCE; Manufacturer: UNI-ROYAL(Uniroyal Elec); Value: 1 kOhms; JLCPCB Part #: C11702
footprint RES 0402_1005
pins: 1, 2

## RR0510P-152-D
designator R?, comment 1.5 kOhms
RES SMD 1.5K OHM 0.5% 1/16W 0402; Part Number: RR0510P-152-D; MFR.Part #: CRCW04021K50FKED; Manufacturer: Vishay Intertech; Value: 1.5 kOhms; JLCPCB Part #: C71622
footprint RES 0402_1005
pins: 1, 2

## RR0510P-152-D_1
designator R?, comment 470ohm
RES SMD 1.5K OHM 0.5% 1/16W 0402; Part Number: RR0510P-152-D; MFR.Part #: 0402WGF1501TCE; Manufacturer: UNI-ROYAL(Uniroyal Elec); Value: 1.5 kOhms; JLCPCB Part #: C25867
footprint RES 0402_1005
pins: 1, 2

## RT0402BRD07180RL
designator R?, comment 180 Ohms
RES SMD 180 OHM 0.1% 1/16W 0402; Part Number: RT0402BRD07180RL; MFR.Part #: C38941; Manufacturer: UNI-ROYAL(Uniroyal Elec); Value: 180 Ohms; JLCPCB Part #: 0402WGF1800TCE
footprint YAGEO RES 0402_1005
pins: 1, 2

## W25Q64JWUUIQ
designator U?  (value not drawn)
Manufacturer: Winbond Elec; Add into BOM: yes; Interface: SPI; Memory Size: 64Mbit; Clock Frequency: 133MHz; Voltage - Supply: 1.7V~1.95V; Program / Erase Cycles: 100,000 Cycles; Page Programming Time (Tpp): 800us; Data Retention - TDR (Year): 20 Years; Symbol: W25Q64JWUUIQ; Device: W25Q64JWUUIQ; LCSC Part Name: W25Q64JWUUIQ; Supplier Part: C6604692; Manufacturer Part: W25Q64JWUUIQ; Supplier Footprint: USON-8(3x4); JLCPCB Part Class: Extended Part; Datasheet: https://atta.szlcsc.com/upload/public/pdf/source/20210420/C2595075_E7A7725B7CF2DE50C07916BF10CAF3A1.pdf; Supplier: LCSC; Convert to PCB: yes; Operating Temperature: -; JLCPCB Part #: C6604692; MFR.Part #: W25Q64JWUUIQ
footprint USON-8_L4.0-W3.0-P0.80-BL_WINBOND_UU
3D model USON-8_L4.0-W3.0-H0.6-P0.80-BL_GD25Q32CNIGR
pins: 1 CS#, 2 DO(IO1), 3 WP#(IO2, 4 GND, 5 DI(IO0), 6 CLK, 7 HOLD#/RESET#(IO3), 8 VCC, 9 EP, 10 EP